# EAGLE library part NRF24L01P (library nRF24L01P)
Single Chip 2.4GHz Transceiver Source: Datasheet
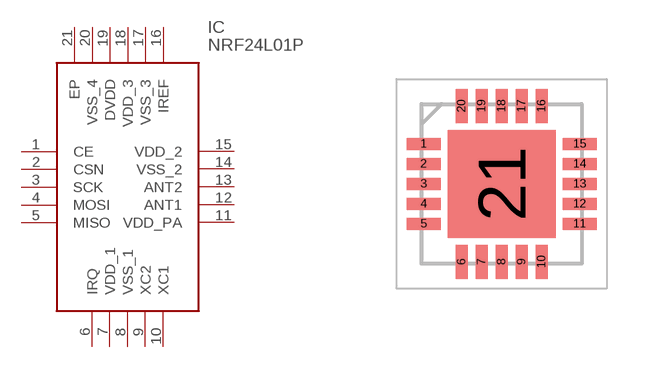
[diagram p0: symbol with the pads of QFN50P400X400X95-21N; footprint QFN50P400X400X95-21N]

Designator prefix IC

## NRF24L01P (Description: Single Chip 2.4GHz Transceiver; Height: 0.95mm; Manufacturer_Name: Nordic Semiconductor; Manufacturer_Part_Number: nRF24L01P; Mouser_Part_Number: 949-NRF24L01P; Mouser_Price-Stock: https://www.mouser.co.uk/ProductDetail/Nordic-Semiconductor/NRF24L01P?qs=yqaQSyyJnNiKlgjT8AqoOw%3D%3D)  [QFN50P400X400X95-21N]
1  CE
2  CSN  in
3  SCK
4  MOSI
5  MISO
6  IRQ
7  VDD_1  pwr
8  VSS_1  pwr
9  XC2
10  XC1
11  VDD_PA  pwr
12  ANT1
13  ANT2
14  VSS_2  pwr
15  VDD_2  pwr
16  IREF  in
17  VSS_3  pwr
18  VDD_3  pwr
19  DVDD  pwr
20  VSS_4  pwr
21  EP

## Footprint QFN50P400X400X95-21N (pad centres in mm)
Saw QFN20 (4x4 mm)
smd 0.85 x 0.3: 1 -1.95,1; 2 -1.95,0.5; 3 -1.95,0; 4 -1.95,-0.5; 5 -1.95,-1; 11 1.95,-1; 12 1.95,-0.5; 13 1.95,0; 14 1.95,0.5; 15 1.95,1
smd 0.3 x 0.85: 6 -1,-1.95; 7 -0.5,-1.95; 8 0,-1.95; 9 0.5,-1.95; 10 1,-1.95; 16 1,1.95; 17 0.5,1.95; 18 0,1.95; 19 -0.5,1.95; 20 -1,1.95
smd 2.7 x 2.7: 21 0,0